# Altium footprint library DE-220124.PcbLib: 98 footprints (part 4 of 7)
Each footprint in its own frame and in the unit in brackets; x right, y up, seen from the top. Pads: shape width x height; smd on the part's side, far side on the other; paste and mask are expansions set on the pad; w line width, h text height; cw(c..) or ccw(c..) is an arc to the next point about the centre after c.
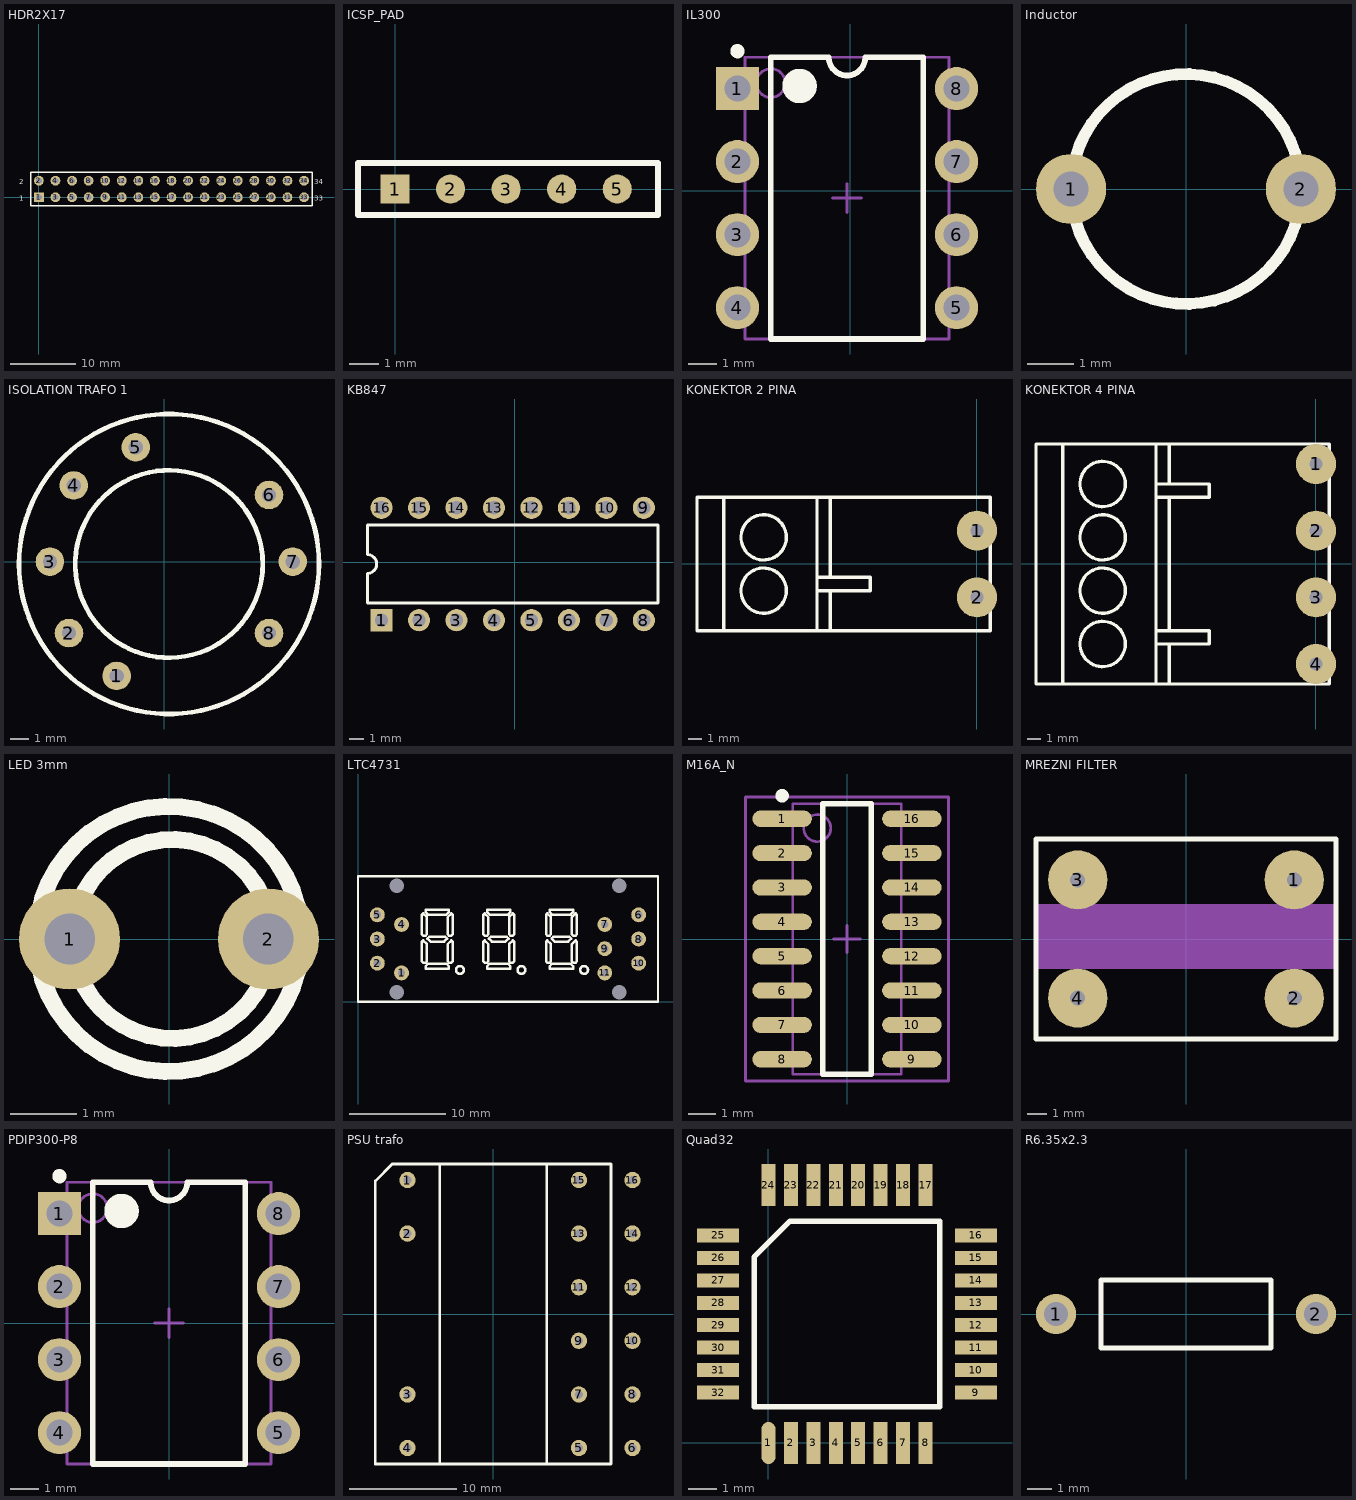
[diagram p3: the footprints below, top view; thin cyan lines are the x and y axes]

## HDR2X17 [mm] "Connector; Header; 17x2 Position"
pads (34):
  rect 1.5x1.5 hole 0.9: 1(0,0)
  round 1.5 hole 0.9: 2(0,2.54) 3(2.54,0) 4(2.54,2.54) 5(5.08,0) 6(5.08,2.54) 7(7.62,0) 8(7.62,2.54) 9(10.16,0) 10(10.16,2.54) 11(12.7,0) 12(12.7,2.54) 13(15.24,0) 14(15.24,2.54) 15(17.78,0) 16(17.78,2.54) 17(20.32,0) 18(20.32,2.54) 19(22.86,0) 20(22.86,2.54) 21(25.4,0) 22(25.4,2.54) 23(27.94,0) 24(27.94,2.54) 25(30.48,0) 26(30.48,2.54) 27(33.02,0) 28(33.02,2.54) 29(35.56,0) 30(35.56,2.54) 31(38.1,0) 32(38.1,2.54) 33(40.64,0) 34(40.64,2.54)
Top Overlay:
  lines w0.2: -1.27,-1.27 -1.27,3.81 41.91,3.81 41.91,-1.27 -1.27,-1.27
  text "2" at -3.048,2.032 h0.76
  text "1" at -3.048,-0.508 h0.76
  text "33" at 42.164,-0.508 h0.76
  text "34" at 42.164,2.032 h0.76

## ICSP_PAD [mm] "PCB pads for ULINK ICSP"
pads (5):
  rect 1x1 smd: 1(0,0)
  round 1 smd: 2(1.905,0) 3(3.81,0) 4(5.715,0) 5(7.62,0)
Top Overlay:
  lines w0.2: -1.27,-0.889 -1.27,0.889 9.017,0.889 9.017,-0.889 -1.27,-0.889

## IL300 [mm] "Optocoupler"
height 5
pads (8):
  rect 1.5x1.5 hole 0.9: 1(-3.922,3.556)
  round 1.5 hole 0.9: 2(-3.922,1.016) 3(-3.922,-1.524) 4(-3.922,-4.064) 5(3.698,-4.064) 6(3.698,-1.524) 7(3.698,1.016) 8(3.698,3.556)
Top Overlay:
  circle w0.25: c-3.922,4.856 r0.125
  circle w0.6: c-1.762,3.646 r0.3
  lines w0.2: -2.762,-5.154 -2.762,4.646 -0.747,4.646 ccw(c-0.112,4.646) 0.523,4.646 2.538,4.646 2.538,-5.154 -2.762,-5.154
Mechanical 13:
  circle w0.1: c-2.762,3.746 r0.5
  lines w0.1: -3.662,-5.154 -3.662,4.646 3.438,4.646 3.438,-5.154 -3.662,-5.154
Mechanical 15:
  lines w0.1: -0.612,-0.254 0.388,-0.254 ; -0.112,-0.754 -0.112,0.246
3D body: height 5.34, standoff 0, extent -3.662,-5.154 3.438,4.646

## Inductor [mil] "Filter inductor 100uH"
height 314.96
pads (2):
  round 60 hole 30: 1(-98.43,0) 2(98.43,0)
Top Overlay:
  circle w10: c0,0 r98.43
3D body: height 314.96, standoff 0, extent -97.65,-98.23 98.43,98.23

## ISOLATION TRAFO 1 [mil] "SMPS ferit toroid trafo"
height 12
pads (8):
  round 60 hole 30: 1(-100,-240) 2(-200,-150) 3(-240,0) 4(-190,160) 5(-60,240) 6(220,140) 7(270,0) 8(220,-150)
Top Overlay:
  circle w10: c10,-5 r314.96
  circle w10: c10,-5 r196.85

## KB847 [mm] "4 pack optocoupler"
height 0.127
pads (16):
  rect 1.5x1.5 hole 0.9: 1(-9.017,-3.937)
  round 1.5 hole 0.9: 2(-6.477,-3.937) 3(-3.937,-3.937) 4(-1.397,-3.937) 5(1.143,-3.937) 6(3.683,-3.937) 7(6.223,-3.937) 8(8.763,-3.937) 9(8.763,3.683) 10(6.223,3.683) 11(3.683,3.683) 12(1.143,3.683) 13(-1.397,3.683) 14(-3.937,3.683) 15(-6.477,3.683) 16(-9.017,3.683)
Top Overlay:
  lines w0.2: -9.977,-2.777 -9.977,-0.762 ccw(c-9.977,-0.127) -9.977,0.508 -9.977,2.523 9.723,2.523 9.723,-2.777 -9.977,-2.777
3D body: height 3.5, standoff 1.5, extent -10.033,-2.794 9.728,2.54

## KONEKTOR 2 PINA [mm] "Razdvojivi konektor 2 pina"
height 8
pads (2):
  round 3 hole 1: 1(0,2.5) 2(0,-2.5)
Top Overlay:
  circle w0.254: c-16,2 r1.7
  circle w0.254: c-16,-2 r1.7
  lines w0.254: -19,-5 -19,5 ; -12,-5 -12,5 ; -12,-2 -8,-2 -8,-1 -12,-1 ; -11,-5 -11,-2 ; -11,-1 -11,5 ; -21,-5 1,-5 1,5 -21,5 -21,-5
3D body: height 10, standoff 0.3, extent -11.049,-5.08 1.016,5.08
3D body: height 10, standoff 0.3, extent -20.955,-4.953 -11.938,5.08
3D body: height 2, standoff 0.3, extent -20.955,-4.953 -18.923,5.08
3D body: height 7, standoff 0.3, extent -12.065,-5.016 -10.986,4.953

## KONEKTOR 4 PINA [mm] "Razdvojivi konektor 4 pina"
height 13
pads (4):
  round 3 hole 1: 1(0,7.5) 2(0,2.5) 3(0,-2.5) 4(0,-7.5)
Top Overlay:
  circle w0.254: c-16,-6 r1.7
  circle w0.254: c-16,6 r1.7
  circle w0.254: c-16,-2 r1.7
  circle w0.254: c-16,2 r1.7
  lines w0.254: -19,-9 -19,9 ; -12,-9 -12,9 ; -12,-6 -8,-6 -8,-5 -12,-5 ; -12,5 -8,5 -8,6 -12,6 ; -11,-9 -11,-6 ; -11,-5 -11,5 ; -11,6 -11,9 ; -21,-9 -21,9 1,9 1,-9 -21,-9
3D body: height 10, standoff 0.3, extent -20.955,-9.017 -11.938,9.144
3D body: height 10, standoff 0.3, extent -10.922,-9.017 1.016,9.017
3D body: height 7, standoff 0.3, extent -11.938,-9.017 -10.922,9.017

## LED 3mm [mil] "LED 3mm"
height 15
pads (2):
  round 60 hole 30: 1(-59.06,0) 2(59.06,0)
Top Overlay:
  circle w10: c0,0 r78.74
  circle w10: c1.89,0 r59.06

## LTC4731 [mm] "Common Cathode 3 digits 7 segment LED display"
height 0.178
pads (15):
  round 1.54 hole 0.762: 1(4.5,3) 2(2,4) 3(2,6.5) 4(4.5,8) 5(2,9) 6(29,9) 7(25.5,8) 8(29,6.5) 9(25.5,5.5) 10(29,4) 11(25.5,3)
  round 1 hole 1.5: HOLE(4,1) HOLE(4,12) HOLE(27,1) HOLE(27,12)
Top Overlay:
  drawing of 154 lines, arcs and shapes, not listed

## M16A_N [mm] "SOIC, 16-Leads, Body 9.9x3.9mm, Pitch 1.27mm, IPC Medium Density"
height 1.75
pads (16):
  oval 2.2x0.6 smd: 1(-2.4,4.445) 2(-2.4,3.175) 3(-2.4,1.905) 4(-2.4,0.635) 5(-2.4,-0.635) 6(-2.4,-1.905) 7(-2.4,-3.175) 8(-2.4,-4.445) 9(2.4,-4.445) 10(2.4,-3.175) 11(2.4,-1.905) 12(2.4,-0.635) 13(2.4,0.635) 14(2.4,1.905) 15(2.4,3.175) 16(2.4,4.445)
Top Overlay:
  circle w0.25: c-2.4,5.295 r0.125
  lines w0.2: -0.9,-5 -0.9,5 0.9,5 0.9,-5 -0.9,-5
Mechanical 13:
  circle w0.1: c-1.1,4.1 r0.5
  lines w0.1: -2,-5 -2,5 2,5 2,-5 -2,-5
Mechanical 15:
  lines w0.1: -0.5,0 0.5,0 ; 0,-0.5 0,0.5 ; -3.75,-5.25 -3.75,5.25 3.75,5.25 3.75,-5.25 -3.75,-5.25
3D body: height 1.75, standoff 0, extent -2,-5 2,5

## MREZNI FILTER [mm] "Filter mrežnih smetnji"
height 0.381
pads (4):
  round 3 hole 0.762: 1(5.5,3) 2(5.5,-3) 3(-5.5,3) 4(-5.5,-3)
Top Overlay:
  lines w0.254: -7.62,-5.08 7.62,-5.08 7.62,5.08 -7.62,5.08 -7.62,-5.08
Mechanical 1:
  rectangle: -7.62,-1.524 7.62,1.778

## PDIP300-P8 [mm] "DIP, 8-Leads, Row Spacing 7.62mm, Pitch 2.54mm, Body 9.5x6.6mm"
height 5.34
pads (8):
  rect 1.5x1.5 hole 0.9: 1(-3.81,3.81)
  round 1.5 hole 0.9: 2(-3.81,1.27) 3(-3.81,-1.27) 4(-3.81,-3.81) 5(3.81,-3.81) 6(3.81,-1.27) 7(3.81,1.27) 8(3.81,3.81)
Top Overlay:
  circle w0.25: c-3.81,5.11 r0.125
  circle w0.6: c-1.65,3.9 r0.3
  lines w0.2: -2.65,-4.9 -2.65,4.9 -0.635,4.9 ccw(c0,4.9) 0.635,4.9 2.65,4.9 2.65,-4.9 -2.65,-4.9
Mechanical 13:
  circle w0.1: c-2.65,4 r0.5
  lines w0.1: -3.55,-4.9 -3.55,4.9 3.55,4.9 3.55,-4.9 -3.55,-4.9
Mechanical 15:
  lines w0.1: -0.5,0 0.5,0 ; 0,-0.5 0,0.5
3D body: height 5.34, standoff 0, extent -3.55,-4.9 3.55,4.9

## PSU trafo [mil] "SMPSU feritni trafo"
height 984.25
pads (16):
  round 60 hole 30: 1(-314.96,492.13) 2(-314.96,295.28) 3(-314.96,-295.28) 4(-314.96,-492.13) 5(314.96,-492.13) 6(511.81,-492.13) 7(314.96,-295.28) 8(511.81,-295.28) 9(314.96,-98.43) 10(511.81,-98.43) 11(314.96,98.43) 12(511.81,98.43) 13(314.96,295.28) 14(511.81,295.28) 15(314.96,492.13) 16(511.81,492.13)
Top Overlay:
  lines w10: -371,551 -433.07,488.93 -433.07,-551.18 433.07,-551.18 433.07,551 ; -371,551.18 433.07,551.18 ; -196.85,-551.18 -196.85,551.18 196.85,551.18 196.85,-551.18 -196.85,-551.18
3D body: height 944.88, standoff 196.85, extent -250,-550 250,550
3D body: height 787.4, standoff 196.85, extent -430,-400 -250,400
3D body: height 787.4, standoff 196.85, extent 250,-400 430,400

## Quad32 [mm] "STM32 QLF32 package"
height 3
pads (32):
  oval 0.5x1.5 smd: 1(0,0)
  rect 0.5x1.5 smd: 2(0.8,0) 3(1.6,0) 4(2.4,0) 5(3.2,0) 6(4,0) 7(4.8,0) 8(5.6,0) 17(5.6,9.2) 18(4.8,9.2) 19(4,9.2) 20(3.2,9.2) 21(2.4,9.2) 22(1.6,9.2) 23(0.8,9.2) 24(0,9.2)
  rect 1.5x0.5 smd: 9(7.4,1.8) 10(7.4,2.6) 11(7.4,3.4) 12(7.4,4.2) 13(7.4,5) 14(7.4,5.8) 15(7.4,6.6) 16(7.4,7.4) 25(-1.8,7.4) 26(-1.8,6.6) 27(-1.8,5.8) 28(-1.8,5) 29(-1.8,4.2) 30(-1.8,3.4) 31(-1.8,2.6) 32(-1.8,1.8)
Top Overlay:
  lines w0.2: -0.515,1.285 -0.515,6.63 0.77,7.915 6.115,7.915 6.115,1.285 -0.515,1.285

## R6.35x2.3 [mm] "Resistor, Axial; Body 7 x 2.8 mm (LxDia. max), Lead Dia. 0.7 mm (max)"
height 2.8
pads (2):
  round 1.65 hole 1: 1(-5.35,0) 2(5.35,0)
Top Overlay:
  lines w0.2: -3.5,-1.4 3.5,-1.4 3.5,1.4 -3.5,1.4 -3.5,-1.4